# EAGLE library part 0438146621 (library ELE3000)
2x RJ11 Molex 438146621
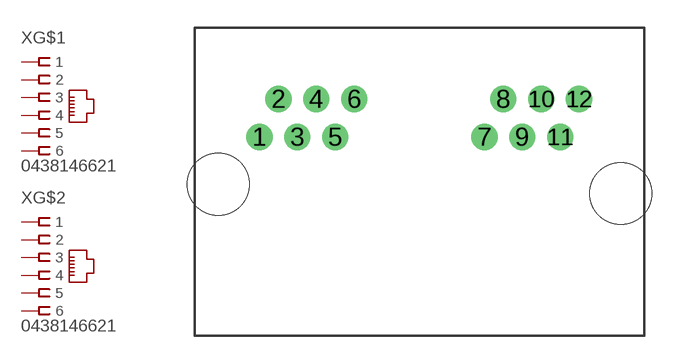
[diagram p1: symbol with the pads of 2*RJ11; footprint 2*RJ11]

Designator prefix X; gates G$1=JACK6 G$2=JACK6

## 0438146621  [2*RJ11]
1  G$1:1  pas
2  G$1:2  pas
3  G$1:3  pas
4  G$1:4  pas
5  G$1:5  pas
6  G$1:6  pas
7  G$2:1  pas
8  G$2:2  pas
9  G$2:3  pas
10  G$2:4  pas
11  G$2:5  pas
12  G$2:6  pas

## Footprint 2*RJ11 (pad centres in mm)
2 RJ11 connectors side by side
drill 0.9: 1 -9.22,3.048; 2 -8.204,5.08; 3 -7.188,3.048; 4 -6.172,5.08; 5 -5.156,3.048; 6 -4.14,5.08; 7 2.845,3.048; 8 3.861,5.08; 9 4.877,3.048; 10 5.893,5.08; 11 6.909,3.048; 12 7.925,5.08
hole 3.302 at 10.16,0
hole 3.302 at -11.43,0.508